# EAGLE library part MA03-2J (library joakim)
PIN HEADER
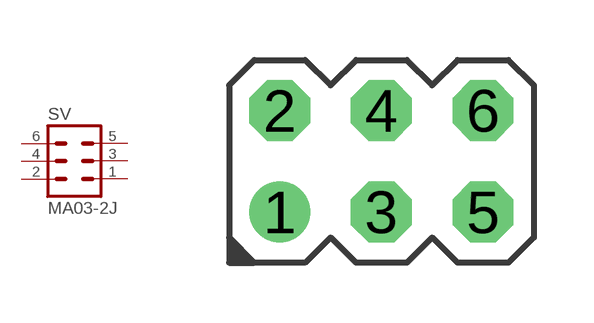
[diagram p13: symbol with the pads of MA03-2J; footprint MA03-2J]

Designator prefix SV

## MA03-2J (OC_FARNELL: unknown; OC_NEWARK: unknown)  [MA03-2J]
1  1  pas
2  2  pas
3  3  pas
4  4  pas
5  5  pas
6  6  pas

## Footprint MA03-2J (pad centres in mm)
PIN HEADER
drill 1.016: 1 -2.54,-1.27
drill 1.016 octagon: 2 -2.54,1.27; 3 0,-1.27; 4 0,1.27; 5 2.54,-1.27; 6 2.54,1.27